# Altium footprint library rlc-th.PcbLib: 65 footprints (part 2 of 5)
Each footprint in its own frame and in the unit in brackets; x right, y up, seen from the top. Pads: shape width x height; smd on the part's side, far side on the other; paste and mask are expansions set on the pad; w line width, h text height; cw(c..) or ccw(c..) is an arc to the next point about the centre after c.
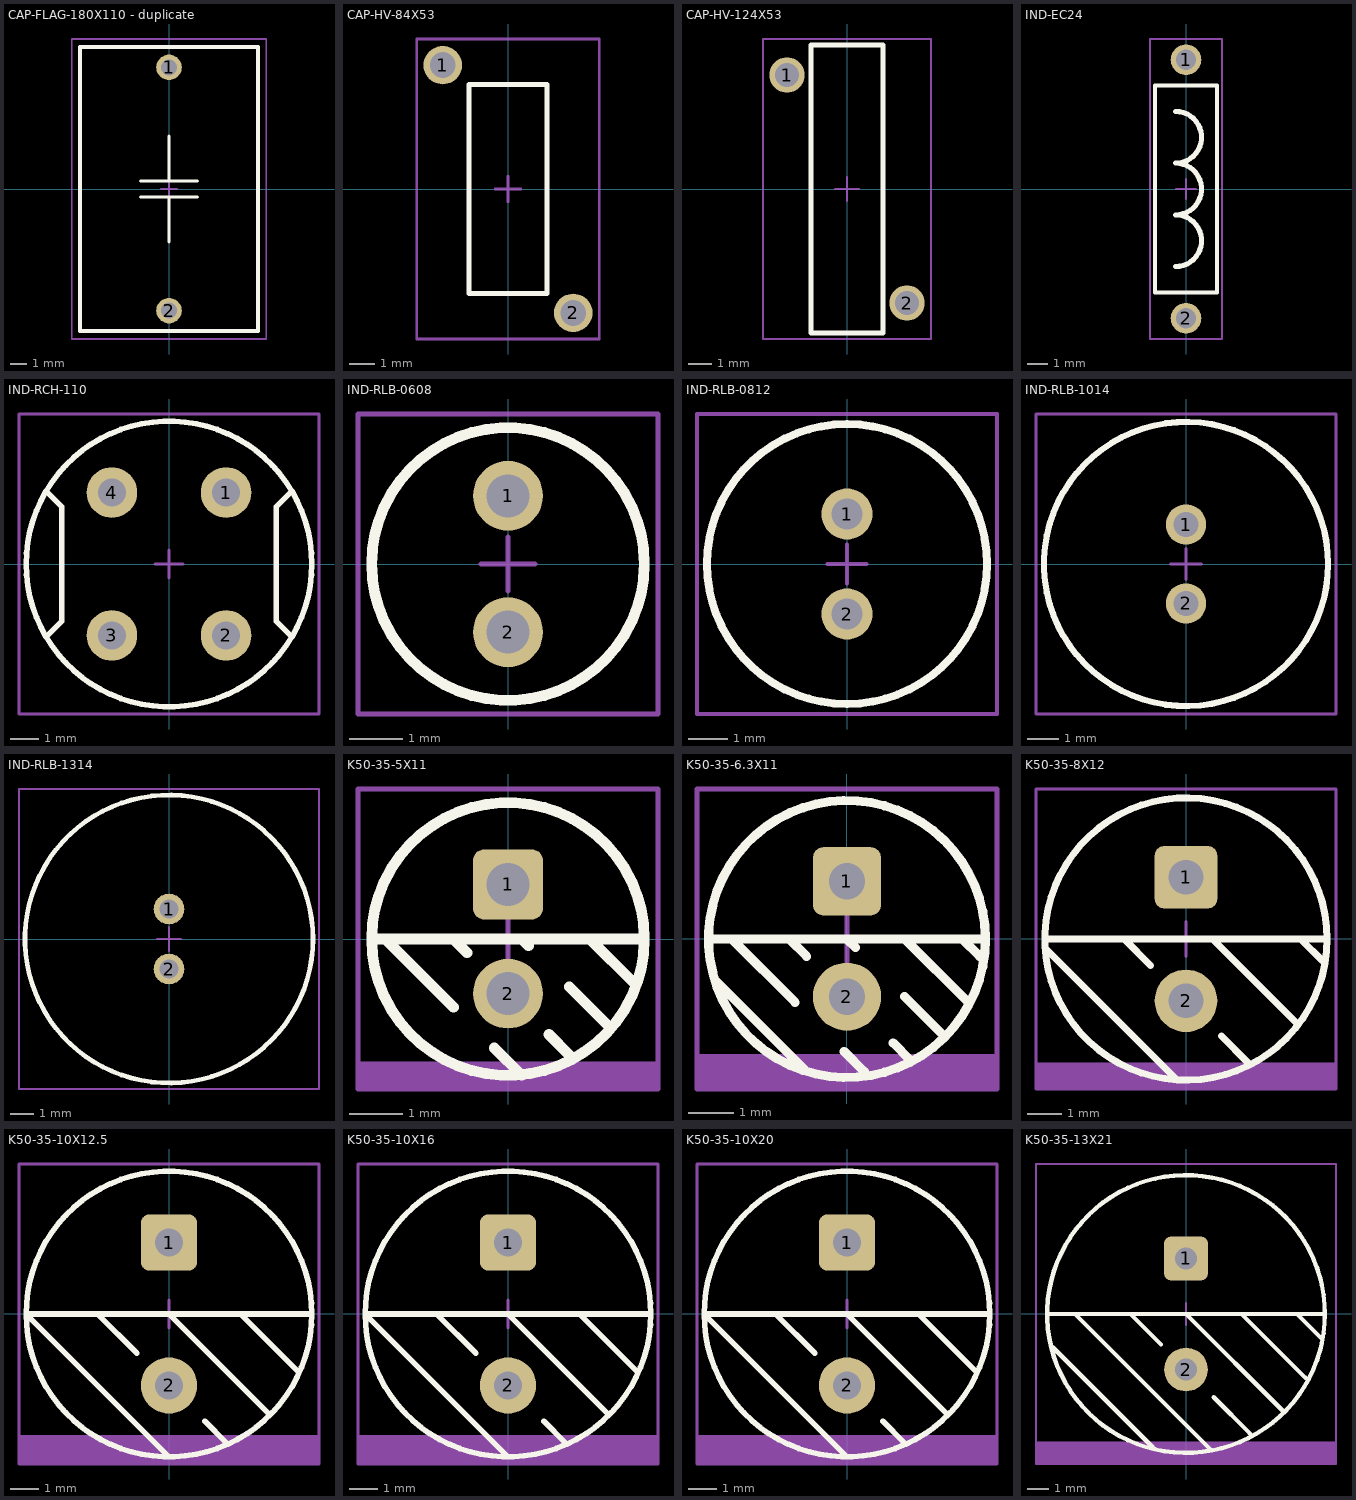
[diagram p1: the footprints below, top view; thin cyan lines are the x and y axes]

## CAP-FLAG-180X110 - duplicate [mm] "CAP, Body 18x11,0mm, Pitch 15,24mm/2,54mm, IPC Medium Density"
height 1.2
pads (2):
  round 1.6 hole 1: 1(0,7.62) 2(0,-7.62)
Top Overlay:
  lines w0.2: -1.778,-0.508 1.778,-0.508 ; -1.778,0.508 1.778,0.508 ; 0,-3.302 0,-0.508 ; 0,0.508 0,3.302
  lines w0.254: -5.588,-8.89 5.588,-8.89 5.588,8.89 -5.588,8.89 -5.588,-8.89
Mechanical 13:
  lines w0.1: -6.096,-9.398 6.096,-9.398 6.096,9.398 -6.096,9.398 -6.096,-9.398
  text ".Designator" at -0.762,2.54 h1.6
Mechanical 15:
  lines w0.05: -6.096,-9.398 -6.096,9.398 6.096,9.398 6.096,-9.398 -6.096,-9.398
  lines w0.1: -0.5,0 0.5,0 ; 0,-0.5 0,0.5
3D body: height 12, standoff 0.1, extent -5.588,-8.89 5.588,8.89

## CAP-HV-84X53 [mm] "QFN, 4-Leads, Body 7,50x5,00mm, Pitch 6,00mm/2,54mm, IPC Medium Density"
height 1.2
pads (2):
  round 1.5 hole 1: 1(-2.54,4.826) 2(2.54,-4.826)
Top Overlay:
  lines w0.2: -1.524,-4.064 -1.524,4.064 1.524,4.064 1.524,-4.064 -1.524,-4.064
Mechanical 13:
  lines w0.1: -3.556,-5.842 -3.556,5.842 3.556,5.842 3.556,-5.842 -3.556,-5.842
  text ".Designator" at -0.762,2.54 h1.6
Mechanical 15:
  lines w0.05: -3.556,-5.842 -3.556,5.842 3.556,5.842 3.556,-5.842 -3.556,-5.842
  lines w0.1: -0.5,0 0.5,0 ; 0,-0.5 0,0.5
3D body: height 8.7, standoff 0.3, extent -1.524,-4.2 1.524,4.2

## CAP-HV-124X53 [mm] "QFN, 4-Leads, Body 7,50x5,00mm, Pitch 6,00mm/2,54mm, IPC Medium Density"
height 1.2
pads (2):
  round 1.5 hole 1: 1(-2.54,4.826) 2(2.54,-4.826)
Top Overlay:
  lines w0.2: -1.524,-6.096 1.524,-6.096 1.524,6.096 -1.524,6.096 -1.524,-6.096
Mechanical 13:
  lines w0.1: -3.556,-6.35 -3.556,6.35 3.556,6.35 3.556,-6.35 -3.556,-6.35
  text ".Designator" at -0.762,2.54 h1.6
Mechanical 15:
  lines w0.05: -3.556,-6.35 3.556,-6.35 3.556,6.35 -3.556,6.35 -3.556,-6.35
  lines w0.1: -0.5,0 0.5,0 ; 0,-0.5 0,0.5
3D body: height 12.7, standoff 0.3, extent -1.524,-6.197 1.524,6.197

## IND-EC24 [mm] "QFN, 4-Leads, Body 7,50x5,00mm, Pitch 6,00mm/2,54mm, IPC Medium Density"
height 1.2
pads (2):
  round 1.5 hole 1: 1(0,6.35) 2(0,-6.35)
Top Overlay:
  lines w0.2: -1.524,-5.08 -1.524,5.08 1.524,5.08 1.524,-5.08 -1.524,-5.08
  lines w0.254: -0.508,-3.81 ccw(c-0.508,-2.54) -0.508,-1.27 ccw(c-0.508,0) -0.508,1.27 ccw(c-0.508,2.54) -0.508,3.81
Mechanical 13:
  lines w0.1: -1.778,-7.366 1.778,-7.366 1.778,7.366 -1.778,7.366 -1.778,-7.366
  text ".Designator" at -1.016,3.302 h2
Mechanical 15:
  lines w0.05: -1.778,-7.366 -1.778,7.366 1.778,7.366 1.778,-7.366 -1.778,-7.366
  lines w0.1: -0.5,0 0.5,0 ; 0,-0.5 0,0.5
3D body: height 3.6, standoff 0.4, extent -1.6,-5.08 1.6,5.08

## IND-RCH-110 [mm] "QFN, 4-Leads, Body 7,50x5,00mm, Pitch 6,00mm/2,54mm, IPC Medium Density"
height 1.2
pads (4):
  round 1.8 hole 1: 1(2.032,2.54) 2(2.032,-2.54) 3(-2.032,-2.54) 4(-2.032,2.54)
Top Overlay:
  circle w0.2: c0,0 r5.08
  lines w0.2: -4.318,-2.54 -3.81,-2.032 -3.81,2.032 -4.318,2.54 ; 4.318,-2.54 3.81,-2.032 3.81,2.032 4.318,2.54
Mechanical 13:
  lines w0.1: -5.334,-5.334 5.334,-5.334 5.334,5.334 -5.334,5.334 -5.334,-5.334
  text ".Designator" at -1.016,3.302 h2
Mechanical 15:
  lines w0.05: -5.334,-5.334 -5.334,5.334 5.334,5.334 5.334,-5.334 -5.334,-5.334
  lines w0.1: -0.5,0 0.5,0 ; 0,-0.5 0,0.5
3D body: height 10.7, standoff 0.2, extent -5.2,-5.197 5.2,5.197

## IND-RLB-0608 [mm]
height 1.2
pads (2):
  round 1.3 hole 0.8: 1(0,1.27) 2(0,-1.27)
Top Overlay:
  circle w0.2: c0,0 r2.54
Mechanical 13:
  lines w0.1: -2.794,-2.794 2.794,-2.794 2.794,2.794 -2.794,2.794 -2.794,-2.794
  text ".Designator" at -0.508,2.032 h1.2
Mechanical 15:
  lines w0.05: -2.794,-2.794 2.794,-2.794 2.794,2.794 -2.794,2.794 -2.794,-2.794
  lines w0.1: -0.5,0 0.5,0 ; 0,-0.5 0,0.5
3D body: height 7.5, standoff 0.5, extent -2.6,-2.6 2.6,2.6

## IND-RLB-0812 [mm]
height 1.2
pads (2):
  round 1.3 hole 0.8: 1(0,1.27) 2(0,-1.27)
Top Overlay:
  circle w0.2: c0,0 r3.556
Mechanical 13:
  lines w0.1: -3.81,-3.81 3.81,-3.81 3.81,3.81 -3.81,3.81 -3.81,-3.81
  text ".Designator" at -0.762,2.54 h1.6
Mechanical 15:
  lines w0.05: -3.81,-3.81 -3.81,3.81 3.81,3.81 3.81,-3.81 -3.81,-3.81
  lines w0.1: -0.5,0 0.5,0 ; 0,-0.5 0,0.5
3D body: height 10.5, standoff 0.5, extent -3.5,-3.497 3.5,3.497

## IND-RLB-1014 [mm]
height 1.2
pads (2):
  round 1.3 hole 0.8: 1(0,1.27) 2(0,-1.27)
Top Overlay:
  circle w0.2: c0,0 r4.572
Mechanical 13:
  lines w0.1: -4.826,-4.826 -4.826,4.826 4.826,4.826 4.826,-4.826 -4.826,-4.826
  text ".Designator" at -1.016,3.302 h2
Mechanical 15:
  lines w0.05: -4.826,-4.826 -4.826,4.826 4.826,4.826 4.826,-4.826 -4.826,-4.826
  lines w0.1: -0.5,0 0.5,0 ; 0,-0.5 0,0.5
3D body: height 13.2, standoff 0.5, extent -4.5,-4.5 4.5,4.5

## IND-RLB-1314 [mm]
height 1.2
pads (2):
  round 1.3 hole 0.8: 1(0,1.27) 2(0,-1.27)
Top Overlay:
  circle w0.2: c0,0 r6.096
Mechanical 13:
  lines w0.1: -6.35,-6.35 -6.35,6.35 6.35,6.35 6.35,-6.35 -6.35,-6.35
  text ".Designator" at -1.016,3.302 h2
Mechanical 15:
  lines w0.05: -6.35,-6.35 -6.35,6.35 6.35,6.35 6.35,-6.35 -6.35,-6.35
  lines w0.1: -0.5,0 0.5,0 ; 0,-0.5 0,0.5
3D body: height 13.2, standoff 0.5, extent -6.2,-6.197 6.2,6.197

## K50-35-5X11 [mm] "QFN, 4-Leads, Body 7,50x5,00mm, Pitch 6,00mm/2,54mm, IPC Medium Density"
height 1.2
pads (2):
  rrect30% 1.3x1.3 hole 0.8: 1(0,1.016)
  round 1.3 hole 0.8: 2(0,-1.016)
Top Overlay:
  circle w0.2: c0,0 r2.54
  lines w0.2: -2.54,0 2.54,0 ; -2.286,0 -1.016,-1.27 ; -1.016,0 -0.762,-0.254 ; -0.254,-2.032 0.254,-2.54 ; 0.254,0 0.381,-0.127 ; 0.762,-1.778 1.143,-2.159 ; 1.143,-0.889 1.905,-1.651 ; 1.524,0 2.349,-0.826
Mechanical 13:
  region: -2.794,-2.794 -2.794,-2.286 2.794,-2.286 2.794,-2.794
  lines w0.1: -2.794,-2.794 -2.794,2.794 2.794,2.794 2.794,-2.794 -2.794,-2.794
  text ".Designator" at -0.508,2.286 h1.2
Mechanical 15:
  lines w0.05: -2.794,-2.794 -2.794,2.794 2.794,2.794 2.794,-2.794 -2.794,-2.794
  lines w0.1: -0.5,0 0.5,0 ; 0,-0.5 0,0.5
3D body: height 11.1, standoff 0.1, extent -2.54,-2.537 2.54,2.537

## K50-35-6.3X11 [mm] "QFN, 4-Leads, Body 7,50x5,00mm, Pitch 6,00mm/2,54mm, IPC Medium Density"
height 1.2
pads (2):
  rrect30% 1.5x1.5 hole 0.8: 1(0,1.27)
  round 1.5 hole 0.8: 2(0,-1.27)
Top Overlay:
  circle w0.2: c0,0 r3.048
  lines w0.2: -3.048,0 3.048,0 ; -2.857,-0.953 -0.953,-2.857 ; -2.54,0 -1.143,-1.397 ; -1.27,0 -0.889,-0.381 ; -0.064,-2.476 0.381,-2.921 ; 0,0 0.191,-0.191 ; 1.016,-2.286 1.397,-2.667 ; 1.27,-1.27 2.159,-2.159 ; 1.27,0 2.667,-1.397 ; 2.54,0 2.921,-0.381
Mechanical 13:
  region: -3.302,-3.302 -3.302,-2.54 3.302,-2.54 3.302,-3.302
  lines w0.1: -3.302,-3.302 -3.302,3.302 3.302,3.302 3.302,-3.302 -3.302,-3.302
  text ".Designator" at -0.508,2.032 h1.2
Mechanical 15:
  lines w0.05: -3.302,-3.302 -3.302,3.302 3.302,3.302 3.302,-3.302 -3.302,-3.302
  lines w0.1: -0.5,0 0.5,0 ; 0,-0.5 0,0.5
3D body: height 11.1, standoff 0.1, extent -3.175,-3.172 3.175,3.172

## K50-35-8X12 [mm] "QFN, 4-Leads, Body 7,50x5,00mm, Pitch 6,00mm/2,54mm, IPC Medium Density"
height 1.2
pads (2):
  rrect30% 1.8x1.8 hole 1: 1(0,1.778)
  round 1.8 hole 1: 2(0,-1.778)
Top Overlay:
  circle w0.2: c0,0 r4.064
  lines w0.2: -4.064,-0.254 -0.254,-4.064 ; -4.064,0 4.064,0 ; -1.778,0 -1.016,-0.762 ; 0.762,0 3.175,-2.413 ; 1.016,-2.794 1.778,-3.556 ; 3.302,0 3.937,-0.635
Mechanical 13:
  region: -4.318,-4.318 -4.318,-3.556 4.318,-3.556 4.318,-4.318
  lines w0.1: -4.318,-4.318 -4.318,4.318 4.318,4.318 4.318,-4.318 -4.318,-4.318
  text ".Designator" at -0.762,2.54 h1.6
Mechanical 15:
  lines w0.05: -4.318,-4.318 4.318,-4.318 4.318,4.318 -4.318,4.318 -4.318,-4.318
  lines w0.1: -0.5,0 0.5,0 ; 0,-0.5 0,0.5
3D body: height 12.1, standoff 0.1, extent -4,-3.997 4,3.997

## K50-35-10X12.5 [mm] "QFN, 4-Leads, Body 7,50x5,00mm, Pitch 6,00mm/2,54mm, IPC Medium Density"
height 1.2
pads (2):
  rrect30% 2x2 hole 1: 1(0,2.54)
  round 2 hole 1: 2(0,-2.54)
Top Overlay:
  circle w0.2: c0,0 r5.08
  lines w0.2: -2.54,0 -1.143,-1.397 ; 0,-5.08 -5.08,0 5.08,0 ; 0,0 3.556,-3.556 ; 1.27,-3.81 2.032,-4.572 ; 2.54,0 4.572,-2.032
Mechanical 13:
  region: -5.334,-5.334 -5.334,-4.318 5.334,-4.318 5.334,-5.334
  lines w0.1: -5.334,-5.334 -5.334,5.334 5.334,5.334 5.334,-5.334 -5.334,-5.334
  text ".Designator" at -1.016,3.556 h2
Mechanical 15:
  lines w0.05: -5.334,-5.334 5.334,-5.334 5.334,5.334 -5.334,5.334 -5.334,-5.334
  lines w0.1: -0.5,0 0.5,0 ; 0,-0.5 0,0.5
3D body: height 12.6, standoff 0.1, extent -5.08,-5.08 5.08,5.08

## K50-35-10X16 [mm] "QFN, 4-Leads, Body 7,50x5,00mm, Pitch 6,00mm/2,54mm, IPC Medium Density"
height 1.2
pads (2):
  rrect30% 2x2 hole 1: 1(0,2.54)
  round 2 hole 1: 2(0,-2.54)
Top Overlay:
  circle w0.2: c0,0 r5.08
  lines w0.2: -2.54,0 -1.143,-1.397 ; 0,-5.08 -5.08,0 5.08,0 ; 0,0 3.556,-3.556 ; 1.27,-3.81 2.032,-4.572 ; 2.54,0 4.572,-2.032
Mechanical 13:
  region: -5.334,-5.334 -5.334,-4.318 5.334,-4.318 5.334,-5.334
  lines w0.1: -5.334,-5.334 -5.334,5.334 5.334,5.334 5.334,-5.334 -5.334,-5.334
  text ".Designator" at -1.016,3.556 h2
Mechanical 15:
  lines w0.05: -5.334,-5.334 -5.334,5.334 5.334,5.334 5.334,-5.334 -5.334,-5.334
  lines w0.1: -0.5,0 0.5,0 ; 0,-0.5 0,0.5
3D body: height 16.1, standoff 0.1, extent -5.08,-5.08 5.08,5.08

## K50-35-10X20 [mm] "QFN, 4-Leads, Body 7,50x5,00mm, Pitch 6,00mm/2,54mm, IPC Medium Density"
height 1.2
pads (2):
  rrect30% 2x2 hole 1: 1(0,2.54)
  round 2 hole 1: 2(0,-2.54)
Top Overlay:
  circle w0.2: c0,0 r5.08
  lines w0.2: -2.54,0 -1.143,-1.397 ; 0,-5.08 -5.08,0 5.08,0 ; 0,0 3.556,-3.556 ; 1.27,-3.81 2.032,-4.572 ; 2.54,0 4.572,-2.032
Mechanical 13:
  region: -5.334,-5.334 -5.334,-4.318 5.334,-4.318 5.334,-5.334
  lines w0.1: -5.334,-5.334 5.334,-5.334 5.334,5.334 -5.334,5.334 -5.334,-5.334
  text ".Designator" at -1.016,3.556 h2
Mechanical 15:
  lines w0.05: -5.334,-5.334 -5.334,5.334 5.334,5.334 5.334,-5.334 -5.334,-5.334
  lines w0.1: -0.5,0 0.5,0 ; 0,-0.5 0,0.5
3D body: height 20.1, standoff 0.1, extent -5.08,-5.08 5.08,5.08

## K50-35-13X21 [mm] "QFN, 4-Leads, Body 7,50x5,00mm, Pitch 6,00mm/2,54mm, IPC Medium Density"
height 1.2
pads (2):
  rrect30% 2x2 hole 1: 1(0,2.54)
  round 2 hole 1: 2(0,-2.54)
Top Overlay:
  circle w0.2: c0,0 r6.35
  lines w0.2: -6.35,0 6.35,0 ; -6.096,-1.524 -1.524,-6.096 ; -5.08,0 1.143,-6.223 ; -2.54,0 -1.143,-1.397 ; 0,0 4.445,-4.445 ; 1.27,-3.81 2.921,-5.461 ; 2.54,0 5.461,-2.921 ; 5.08,0 6.223,-1.143
Mechanical 13:
  region: -6.858,-6.858 -6.858,-5.842 6.858,-5.842 6.858,-6.858
  lines w0.1: -6.858,-6.858 -6.858,6.858 6.858,6.858 6.858,-6.858 -6.858,-6.858
  text ".Designator" at -1.016,3.302 h2
Mechanical 15:
  lines w0.05: -6.858,-6.858 -6.858,6.858 6.858,6.858 6.858,-6.858 -6.858,-6.858
  lines w0.1: -0.5,0 0.5,0 ; 0,-0.5 0,0.5
3D body: height 21.1, standoff 0.1, extent -6.604,-6.601 6.604,6.601